# Altium footprint library SIM7600.PcbLib: 1 footprints
Each footprint in its own frame and in the unit in brackets; x right, y up, seen from the top. Pads: shape width x height; smd on the part's side, far side on the other; paste and mask are expansions set on the pad; w line width, h text height; cw(c..) or ccw(c..) is an arc to the next point about the centre after c.
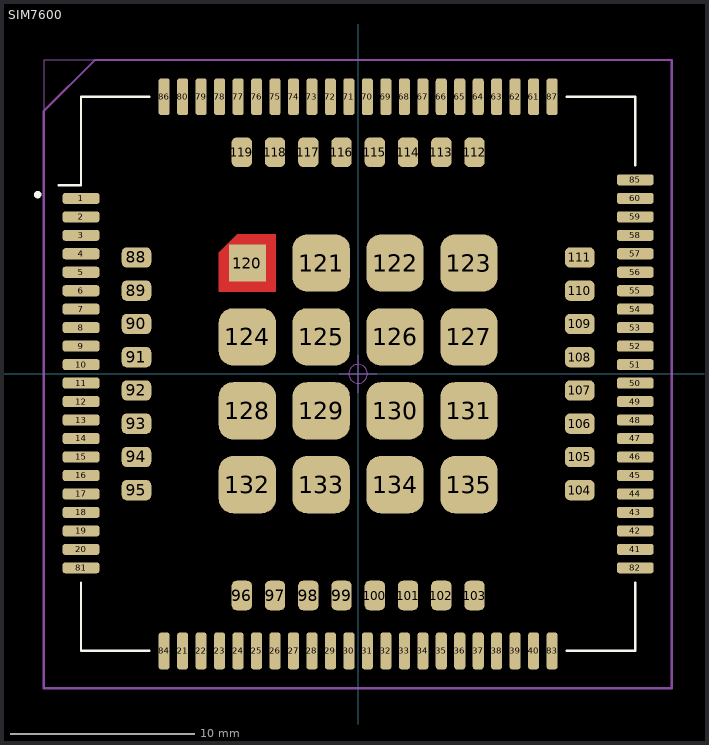
[diagram p0: the footprint, top view; thin cyan lines are the x and y axes]

## SIM7600 [mm]
pads (135):
  rrect50% 2x0.6 smd paste-2: 1(-15,9.5) 2(-15,8.5) 3(-15,7.5) 4(-15,6.5) 5(-15,5.5) 6(-15,4.5) 7(-15,3.5) 8(-15,2.5) 9(-15,1.5) 10(-15,0.5) 11(-15,-0.5) 12(-15,-1.5) 13(-15,-2.5) 14(-15,-3.5) 15(-15,-4.5) 16(-15,-5.5) 17(-15,-6.5) 18(-15,-7.5) 19(-15,-8.5) 20(-15,-9.5) 41(15,-9.5) 42(15,-8.5) 43(15,-7.5) 44(15,-6.5) 45(15,-5.5) 46(15,-4.5) 47(15,-3.5) 48(15,-2.5) 49(15,-1.5) 50(15,-0.5) 51(15,0.5) 52(15,1.5) 53(15,2.5) 54(15,3.5) 55(15,4.5) 56(15,5.5) 57(15,6.5) 58(15,7.5) 59(15,8.5) 60(15,9.5) 81(-15,-10.5) 82(15,-10.5) 85(15,10.5)
  rrect50% 0.6x2 smd paste-2: 21(-9.5,-15) 22(-8.5,-15) 23(-7.5,-15) 24(-6.5,-15) 25(-5.5,-15) 26(-4.5,-15) 27(-3.5,-15) 28(-2.5,-15) 29(-1.5,-15) 30(-0.5,-15) 31(0.5,-15) 32(1.5,-15) 33(2.5,-15) 34(3.5,-15) 35(4.5,-15) 36(5.5,-15) 37(6.5,-15) 38(7.5,-15) 39(8.5,-15) 40(9.5,-15) 61(9.5,15) 62(8.5,15) 63(7.5,15) 64(6.5,15) 65(5.5,15) 66(4.5,15) 67(3.5,15) 68(2.5,15) 69(1.5,15) 70(0.5,15) 71(-0.5,15) 72(-1.5,15) 73(-2.5,15) 74(-3.5,15) 75(-4.5,15) 76(-5.5,15) 77(-6.5,15) 78(-7.5,15) 79(-8.5,15) 80(-9.5,15) 83(10.5,-15) 84(-10.5,-15) 86(-10.5,15) 87(10.5,15)
  rrect50% 1.6x1.1 smd paste-2: 88(-12,6.3) 89(-12,4.5) 90(-12,2.7) 91(-12,0.9) 92(-12,-0.9) 93(-12,-2.7) 94(-12,-4.5) 95(-12,-6.3) 104(12,-6.3) 105(12,-4.5) 106(12,-2.7) 107(12,-0.9) 108(12,0.9) 109(12,2.7) 110(12,4.5) 111(12,6.3)
  rrect50% 1.1x1.6 smd paste-2: 96(-6.3,-12) 97(-4.5,-12) 98(-2.7,-12) 99(-0.9,-12) 100(0.9,-12) 101(2.7,-12) 102(4.5,-12) 103(6.3,-12) 112(6.3,12) 113(4.5,12) 114(2.7,12) 115(0.9,12) 116(-0.9,12) 117(-2.7,12) 118(-4.5,12) 119(-6.3,12)
  rect 2x2 smd paste-2 mask+0: 120(-6,6)
  rrect50% 3.1x3.1 smd paste-3: 121(-2,6) 122(2,6) 123(6,6) 124(-6,2) 125(-2,2) 126(2,2) 127(6,2) 128(-6,-2) 129(-2,-2) 130(2,-2) 131(6,-2) 132(-6,-6) 133(-2,-6) 134(2,-6) 135(6,-6)
Top Layer:
  region: -4.45,4.45 -7.55,4.45 -7.55,6.55 -6.55,7.55 -4.45,7.55
Top Overlay:
  circle w0.2: c-17.35,9.7 r0.1
  lines w0.127: -16.216,10.2 -15,10.2 -15,15 -11.3,15 ; -15,-11.3 -15,-15 -11.3,-15 ; 11.3,-15 15,-15 15,-11.3 ; 11.3,15 15,15 15,11.3
Top Paste:
  drawing of 215 lines, arcs and shapes, not listed
Top Solder:
  region: -4.35,4.35 -7.65,4.35 -7.65,6.65 -6.65,7.65 -4.35,7.65
Mechanical 3:
  lines w0.12: -17.018,-17.018 -17.018,14.224 -14.26,16.982 16.982,16.982 16.982,-17.018 -17.018,-17.018
Mechanical 7:
  circle w0.05: c0,0 r0.508
  lines w0.05: -1.016,0 1.016,0 ; -0.35,0 0.35,0 ; 0,-1.016 0,1.016 ; -17,-17 -17,17 17,17 17,-17 -17,-17
Mechanical 9:
  text "'.Designator'" at -5.69,-0.398 h1.02
3D body: height 2.9, standoff 0, extent -17,-17 17,17
3D body "SIM7600G_AS_PCBA_191120.stp": height 2.91, standoff 0.01, extent -15.014,-15 14.986,15